# Altium schematic symbol library Main.SchLib: 30 symbols
Pins are listed as number, name and electrical type; pins without a type are passive.

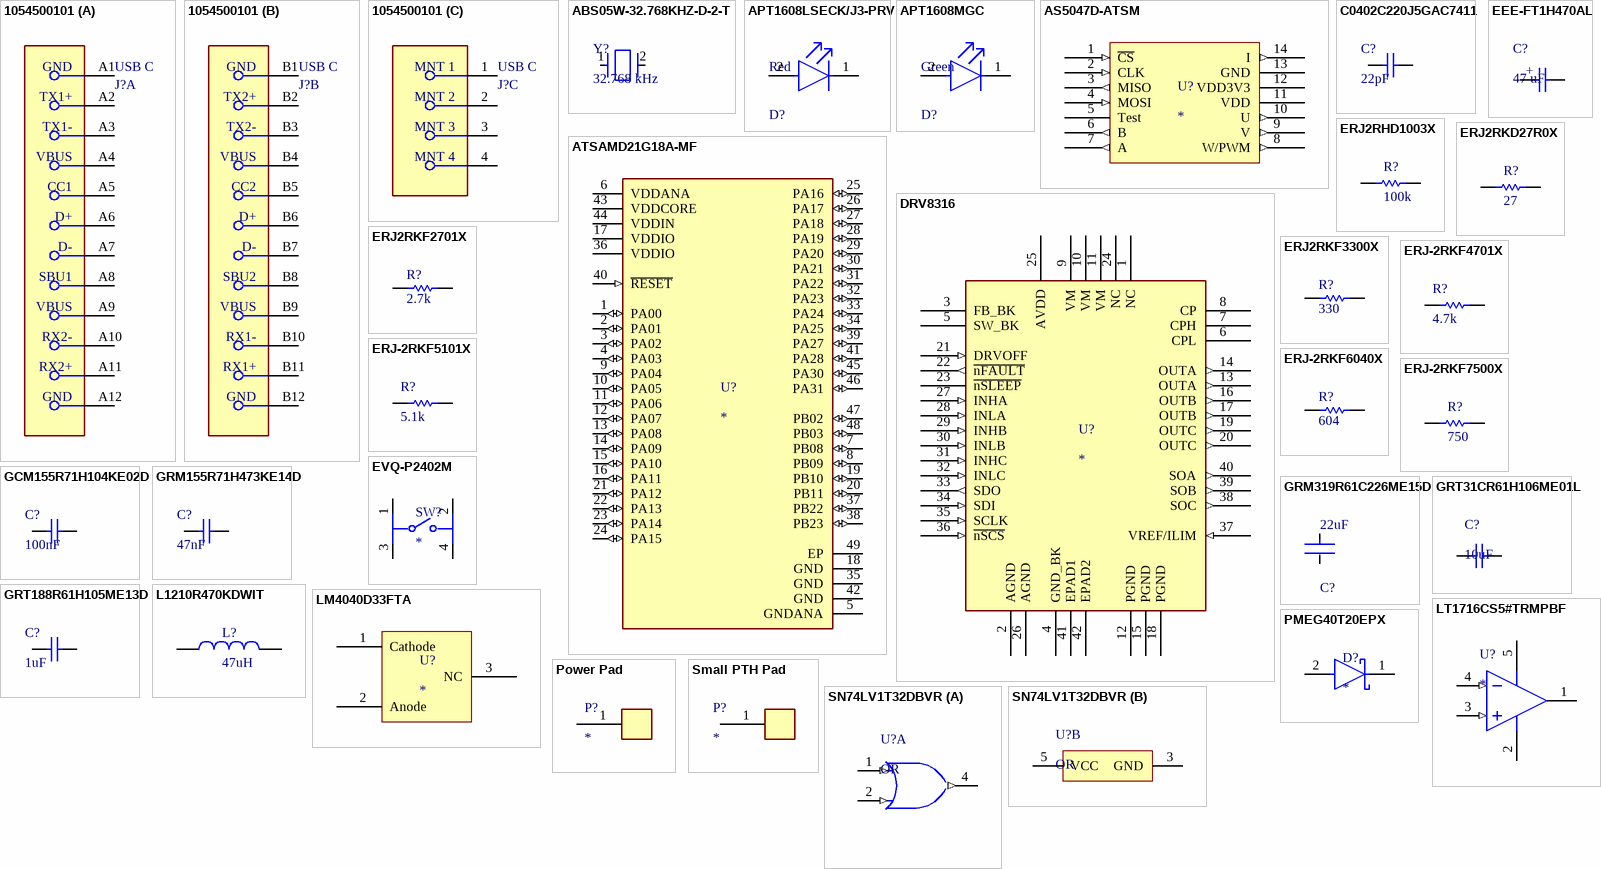
[diagram p0: symbols 1054500101 to SN74LV1T32DBVR]

## 1054500101
designator J?, comment USB C
CONN RCP USB3.1 TYPEC 24P SMD RA; Manufacturer: Molex; Manufacturer Part Number: 1054500101; Number Of Contacts: 24; Voltage Rating: 30V; Shielding: true; Is Female: yes; Current Rating: 0.25/1.25/5A; Pitch: 0.5mm; Conn Orientation: Right Angle; Package: 0; Height: 3.44mm; Footprint Url: https://www.molex.com/pdm_docs/sd/1054500101_sd.pdf; Device Class L1: Connectors; Category: Conn; Device Class L2: USB Connectors; Digikey Description: CONN RCP USB3.1 TYPEC 24P SMD RA; Contact Material: Gold,Nickel; Mouser Description: USB Shielded I/O Receptacle; Type C; Right Angle; Surface Mount; Gold over Nickel; ComponentLink2Description: Datasheet; Lead Free: Yes; Automotive: No; Temperature Range High: +85°C; RoHS: TRUE; Octopart: https://octopart.com/105450-0101-molex-68082325; ComponentLink2URL: https://www.molex.com/webdocs/datasheets/pdf/en-us/1054500101_IO_CONNECTORS.pdf; Temperature: -30°C to +85°C; Usb Standard: USB 3.1; Temperature Range Low: -30°C; Device Class L3: unset; Supplier 1: Digi-Key; Supplier Part Number 1: WM12856CT-ND
footprint FP-1054500101-MFG
part A pins: A1 GND, A2 TX1+, A3 TX1-, A4 VBUS, A5 CC1, A6 D+, A7 D-, A8 SBU1, A9 VBUS, A10 RX2-, A11 RX2+, A12 GND
part B pins: B1 GND, B2 TX2+, B3 TX2-, B4 VBUS, B5 CC2, B6 D+, B7 D-, B8 SBU2, B9 VBUS, B10 RX1-, B11 RX1+, B12 GND
part C pins: 1 MNT 1, 2 MNT 2, 3 MNT 3, 4 MNT 4

## ABS05W-32.768KHZ-D-2-T
designator Y?, comment 32.768 kHz
Crystal Oscillator; Supplier 1: Digi-Key; Supplier Part Number 1: 535-14310-1-ND
footprint ABS05W-32.768KHZ-D-2-T
pins: 1, 2

## APT1608LSECK/J3-PRV
designator D?, comment Red
LED RED CLEAR 2SMD; Dominant Wavelength: 625nm; Lens Color: Colorless; Forward Voltage: 1.8V; Luminous Intensity: 40mcd; Viewing Angle: 120°; Test Current: 2mA; Width: 0.8mm; Case Code (Metric): 1608; Color: Red; Lens Transparency: Clear; Mount: Surface Mount; Height: 0.75mm; Case/Package: 0603; Length: 1.6mm; Packaging: Tape and Reel; Case Code (Imperial): 0603; Supplier 1: Digi-Key; Supplier Part Number 1: 754-1930-1-ND
footprint FP-APT1608LSECK-J3-PRV-MFG
pins: 1 C, 2 A

## APT1608MGC
designator D?, comment Green
LED GREEN CLEAR CHIP SMD; Forward Voltage: 2.1V; Dominant Wavelength: 570nm; Viewing Angle: 120°; Forward Current: 20mA; Luminous Intensity: 70mcd; Max Operating Temperature: 85°C; Case Code (Imperial): 0603; Lens Style: Clear; Height: 0.75mm; Package Quantity: 2000; Width: 0.8mm; Case Code (Metric): 1608; Lead Free: Lead Free; Mount: Surface Mount; Length: 1.6mm; Illumination Color: Green; Min Operating Temperature: -40°C; Test Current: 20mA; Lens Color: Clear; Color: Green; Packaging: Tape and Reel; Case/Package: 0603; Supplier 1: Digi-Key; Supplier Part Number 1: 754-1118-1-ND
footprint FP-APT1608MGC-MFG
pins: 1 C, 2 A

## AS5047D-ATSM
designator U?
Supplier 1: Digi-Key; Supplier Part Number 1: AS5047D-ATSMCT-ND
footprint TSOP65P640X120-14N (TSOP, 14-Leads, Body 5.00x4.40mm, Pitch 0.65mm, IPC Medium Density)
pins: 1 ~{CS} (in), 2 CLK (in), 3 MISO (out), 4 MOSI (in), 5 Test, 6 B (out), 7 A (out), 8 W/PWM (out), 9 V (out), 10 U (out), 11 VDD (power), 12 VDD3V3 (power), 13 GND (power), 14 I (out)

## ATSAMD21G18A-MF
designator U?
footprint QFN-48 (ATSAMD21G18A-M Footprint)
pins: 1 PA00 (io), 2 PA01 (io), 3 PA02 (io), 4 PA03 (io), 5 GNDANA (power), 6 VDDANA (power), 7 PB08 (io), 8 PB09 (io), 9 PA04 (io), 10 PA05 (io), 11 PA06 (io), 12 PA07 (io), 13 PA08 (io), 14 PA09 (io), 15 PA10 (io), 16 PA11 (io), 17 VDDIO (power), 18 GND (power), 19 PB10 (io), 20 PB11 (io), 21 PA12 (io), 22 PA13 (io), 23 PA14 (io), 24 PA15 (io), 25 PA16 (io), 26 PA17 (io), 27 PA18 (io), 28 PA19 (io), 29 PA20 (io), 30 PA21 (io), 31 PA22 (io), 32 PA23 (io), 33 PA24 (io), 34 PA25 (io), 35 GND (power), 36 VDDIO (power), 37 PB22 (io), 38 PB23 (io), 39 PA27 (io), 40 ~{RESET} (in), 41 PA28 (io), 42 GND (power), 43 VDDCORE (power), 44 VDDIN (power), 45 PA30 (io), 46 PA31 (io), 47 PB02 (io), 48 PB03 (io), 49 EP (power)

## C0402C220J5GAC7411
designator C?, comment 22pF
Supplier 1: Digi-Key; Supplier Part Number 1: 399-C0402C220J5GAC7411CT-ND
footprint 0402CAP (0402 Capacitor)
pins: 1, 2

## DRV8316
designator U?
footprint QFN50P500X700X100_HS-41L (QFN, 40-Leads, Body 5.00x7.00mm, Pitch 0.50mm, Thermal Pad 3.70x5.70mm, IPC High Density)
pins: 1 NC, 2 AGND (power), 3 FB_BK (power), 4 GND_BK (power), 5 SW_BK, 6 CPL (power), 7 CPH (power), 8 CP (power), 9 VM (power), 10 VM (power), 11 VM (power), 12 PGND (power), 13 OUTA (out), 14 OUTA (out), 15 PGND (power), 16 OUTB (out), 17 OUTB (out), 18 PGND (power), 19 OUTC (out), 20 OUTC (out), 21 DRVOFF (in), 22 ~{nFAULT} (out), 23 ~{nSLEEP}, 24 NC, 25 AVDD (power), 26 AGND (power), 27 INHA (in), 28 INLA (in), 29 INHB (in), 30 INLB (in), 31 INHC (in), 32 INLC (in), 33 SDO (out), 34 SDI (in), 35 SCLK (in), 36 ~{nSCS} (in), 37 VREF/ILIM (in), 38 SOC (out), 39 SOB (out), 40 SOA (out), 41 EPAD1 (power), 42 EPAD2 (power)

## EEE-FT1H470AL
designator C?, comment 47 uF
Supplier 1: Digi-Key; Supplier Part Number 1: 10-EEE-FT1H470ALCT-ND
footprint CAPAE7866X61N (Aluminum Electrolytic Capacitor, Body 6.60x6.60x6.10mm, IPC Medium Density)
pins: 1, 2
text: +

## ERJ2RHD1003X
designator R?, comment 100k
Supplier 1: Newark; Supplier Part Number 1: 85Y7989
footprint RESC1005X40X25LL05T05 (Chip Resistor, 2-Leads, Body 1.05x0.55mm, IPC High Density)
pins: 1, 2

## ERJ2RKD27R0X
designator R?, comment 27
Supplier 1: RSComponents; Supplier Part Number 1: 8072299
footprint RESC1005X40X25LL05T05 (Chip Resistor, 2-Leads, Body 1.05x0.55mm, IPC High Density)
pins: 1, 2

## ERJ2RKF2701X
designator R?, comment 2.7k
Part Number: ERJ2RKF2701X; Manufacturer: Panasonic; Supplier 1: Digi-Key
footprint RESC1005X40X25LL05T05 (Chip Resistor, 2-Leads, Body 1.05x0.55mm, IPC High Density)
pins: 1, 2
1 alternate drawing of the same symbol

## ERJ2RKF3300X
designator R?, comment 330
Manufacturer: Panasonic; Part Number: ERJ2RKF3300X
footprint RESC1005X40X25LL05T05 (Chip Resistor, 2-Leads, Body 1.05x0.55mm, IPC High Density)
pins: 1, 2
1 alternate drawing of the same symbol

## ERJ-2RKF4701X
designator R?, comment 4.7k
Chip Resistor, 4.7 KOhm, +/- 1%, 0.1 W, -55 to 155 degC, 0402 (1005 Metric), RoHS, Tape and Reel; PartNumber: ERJ-2RKF4701X; Voltage Rating: 50 V; Case\/Package: 0402; Power Rating: 100 mW; Height: 0.35 mm; Mounting Technology: Surface Mount; REACH SVHC: Yes; Resistance: 4.7 KOhm; Max Operating Temperature: 155 degC; ComponentLink1Description: Manufacturer URL; ComponentLink2Description: Datasheet; Pins: 2; PackageReference: 0402; Tolerance: 1%; Case Code (Imperial): 0402; Length: 1 mm; PackageDescription: 2-Pin Surface Mount Device, Body 1 x 0.5 mm; RoHSCompliant: true; Package Quantity: 1; Radiation Hardening: No; DatasheetVersion: 04/2015; Width: 0.5 mm; Case Code (Metric): 1005; Mount: Surface Mount; ComponentLink1URL: http://www.panasonic.com/; Min Operating Temperature: -55 degC; Packaging: Cut Tape; ComponentLink2URL: http://industrial.panasonic.com/cdbs/www-data/pdf/RDA0000/AOA0000C86.pdf; Supplier 1: Digi-Key; Supplier Part Number 1: P4.70KLCT-ND
footprint RESC1005X40X25LL05T05 (Chip Resistor, 2-Leads, Body 1.05x0.55mm, IPC High Density)
pins: 1, 2

## ERJ-2RKF5101X
designator R?, comment 5.1k
PANASONIC - ERJ2RKF5101X - SMD Chip Resistor, 0402 [1005 Metric], 5.1 kohm, ERJ2R Series, 50 V, Thick Film, 100 mW; PartNumber: ERJ-2RKF4701X; Resistance: 4.7 KOhm; Tolerance: 1%; Voltage Rating: 50 V; Case\/Package: 0402; Power Rating: 100 mW; Height: 0.35 mm; Mounting Technology: Surface Mount; REACH SVHC: Yes; Max Operating Temperature: 155 degC; ComponentLink1Description: Manufacturer URL; ComponentLink2Description: Datasheet; Pins: 2; PackageReference: 0402; Case Code (Imperial): 0402; Length: 1 mm; PackageDescription: 2-Pin Surface Mount Device, Body 1 x 0.5 mm; RoHSCompliant: true; Package Quantity: 1; Radiation Hardening: No; DatasheetVersion: 04/2015; Width: 0.5 mm; Case Code (Metric): 1005; Mount: Surface Mount; ComponentLink1URL: http://www.panasonic.com/; Min Operating Temperature: -55 degC; Packaging: Cut Tape; ComponentLink2URL: http://industrial.panasonic.com/cdbs/www-data/pdf/RDA0000/AOA0000C86.pdf; Supplier 1: Digi-Key; Supplier Part Number 1: P5.10KLCT-ND
footprint RESC1005X40X25LL05T05 (Chip Resistor, 2-Leads, Body 1.05x0.55mm, IPC High Density)
pins: 1, 2

## ERJ-2RKF6040X
designator R?, comment 604
Part Number: ERJ-2RKF6040X; Manufacturer: Panasonic; Supplier 1: Digi-Key; Supplier Part Number 1: P604LCT-ND
footprint RESC1005X40X25LL05T05 (Chip Resistor, 2-Leads, Body 1.05x0.55mm, IPC High Density)
pins: 1, 2
1 alternate drawing of the same symbol

## ERJ-2RKF7500X
designator R?, comment 750
Supplier 1: Digi-Key; Supplier Part Number 1: P750LCT-ND
footprint RESC1005X40X25LL05T05 (Chip Resistor, 2-Leads, Body 1.05x0.55mm, IPC High Density)
pins: 1, 2

## EVQ-P2402M
designator SW?
Supplier 1: Digi-Key; Supplier Part Number 1: P11080SCT-ND
footprint EVQ-P2402M (Tactile Switch)
pins: 1, 2, 3, 4

## GCM155R71H104KE02D
designator C?, comment 100nF
Supplier 1: Digi-Key; Supplier Part Number 1: 490-10672-1-ND
footprint 0402CAP (0402 Capacitor)
pins: 1, 2

## GRM155R71H473KE14D
designator C?, comment 47nF
Chip Capacitor, 47 nF, +/- 10%, 50 V, -55 to 125 degC, 0402 (1005 Metric), RoHS, Tape and Reel; Manufacturer: TDK; PCN Part Number: MLCCPartNumberChange30/Nov/2012; Kits: 445-9021-KIT-ND-KITMLCC100PF-10UF04026.3-50V445-173086-KIT-ND-C0402-2220X7R6.3-50V1,000PF-; Temperature Coefficient: X7R; Voltage - Rated: 50V; Product Training Modules: CSeriesGeneralApplicationsSEAT,CCV,andTVCLDesignToolsGuidetoReplacinganElectrolyticCapacitorwithanMLCC; Other Names: 445-7336-1; Capacitance: 0.047µF; Online Catalog: CSeries,GeneralPurpose; Standard Package: 1; Manufacturer URL: http://www.tdk.com/; Category: Capacitors; Operating Temperature: -55°C~125°C; Datasheet Version: 08/2016; Tolerance: ±10%; Series: C; Mounting Technology: SurfaceMount; Mounting Type: SurfaceMount,MLCC; Packaging: CutTape(CT); Height - Seated (Max): -; Package Description: 2-Pin Surface Mount Device, Body 1 x 0.5 mm; Applications: GeneralPurpose; Thickness (Max): 0.022"(0.55mm); Datasheet URL: https://product.tdk.com/info/en/catalog/datasheets/mlcc_commercial_general_en.pdf; Ratings: -; Package Reference: 1005; Lead Spacing: -; Family: CeramicCapacitors; Lead Style: -; Size / Dimension: 0.039"Lx0.020"W(1.00mmx0.50mm); RoHS Information: RoHSCertificate-MLCC; Package / Case: 0402(1005Metric); Features: -; Supplier 1: Digi-Key; Supplier Part Number 1: 490-10702-1-ND
footprint FP-GRM155-0_05-MFG
pins: 1, 2

## GRM319R61C226ME15D
designator C?, comment 22uF
Multilayer Ceramic Capacitors 22uF ±10% 16V X7R SMD 1210; Voltage Rating (DC): 16V; RoHS Compliant: Yes; Thickness: 0.11inch; Packaging: Tape and Reel; Voltage: 16V; Length: 3.2mm; Radiation Hardening: No; Case/Package: 1210; Tolerance: 10%; Package Quantity: 1; Series: C; Capacitance: 22uF; Lead Free: Lead Free; Voltage Rating: 16V; Number of Pins: 2; Weight: 0.000564oz; Height: 2.5mm; Case Code (Metric): 3225; Depth: 2.5mm; Min Operating Temperature: -55°C; Termination: SMD/SMT; Dielectric Material: Ceramic; Mount: Surface Mount; Resistor Type: Ceramic; Max Operating Temperature: 125°C; Construction: Flat; Dielectric: X7R; Width: 0.098inch; REACH SVHC: No SVHC; Case Code (Imperial): 1210; Supplier 1: Digi-Key; Supplier Part Number 1: 490-12763-1-ND
footprint FP-GRM319-0_15-MFG
pins: 1, 2

## GRT31CR61H106ME01L
designator C?, comment 10uF
Supplier 1: Digi-Key; Supplier Part Number 1: 490-12457-1-ND
footprint FP-GRT31C-0_2-IPC_B
pins: 1, 2

## GRT188R61H105ME13D
designator C?, comment 1uF
Supplier 1: Digi-Key; Supplier Part Number 1: 490-12331-1-ND
footprint 0603CAP (0603 Capacitor)
pins: 1, 2

## L1210R470KDWIT
designator L?, comment 47uH
Supplier 1: Newark; Supplier Part Number 1: 50AC9370
footprint INDC3225X25N (Chip Inductor, 2-Leads, Body 3.20x2.50mm, IPC Medium Density)
pins: 1, 2

## LM4040D33FTA
designator U?
Supplier 1: Mouser; Supplier Part Number 1: 621-LM4040D33FTA
footprint SOT65P210X100-3N (SOT23, 3-Leads, Body 2.00x2.10mm, Pitch 0.65mm, IPC Medium Density)
pins: 1 Cathode, 2 Anode, 3 NC

## LT1716CS5#TRMPBF
designator U?
SOT-23, 44 V, Over-the-Top, Micropower, Precision Rail-to-Rail Comparator, 1 Channel, 2.7 to 44 V, 0 to +70 degC, 5-pin Plastic TSOT-23 (S5), Mini Tape and Reel; Generic Part Number: LT1716; Manufacturer: Linear Technology; PartNumber: LT1716CS5#TRMPBF; Vos (mV) Guaranteed: 1.6; Channels (#): 1; Prop Delay (us): 3; Supply Current (uA) Typical: 50; Vos (mV) Typical: 0.3; Vs Min (V): 2.7; Vs Max (V): 44; PackageDescription: 5-Pin Plastic TSOT-23, Body 2.9 x 1.63 mm, Pitch 0.95 mm; DatasheetVersion: Rev A; Supply Voltage Range: 2.7 to 44 V; RoHS: Y; ComponentLink3URL: http://cds.linear.com/docs/en/packaging/SOT_5_05-08-1635.pdf; ComponentLink2URL: http://cds.linear.com/docs/en/datasheet/1716fa.pdf; ComponentLink2Description: Datasheet; Code_JEDEC: MO-193; ComponentLink3Description: Package Specification; Mounting Technology: Surface Mount; ComponentLink1Description: Manufacturer URL; PackageReference: S5; Features: Comparator, Over-the-Top Inputs, Rail-to-Rail Out; ComponentLink1URL: http://www.linear.com/; Supplier 1: Digi-Key; Supplier Part Number 1: LT1716CS5#TRMPBFCT-ND
footprint SOT95P280X100-5N (SOT23, 5-Leads, Body 2.90x2.80mm, Pitch 0.95mm, IPC Medium Density)
pins: 1 OUT (oc), 2 V- (power), 3 +IN (in), 4 -IN (in), 5 V+ (power)

## PMEG40T20EPX
designator D?
Supplier 1: Digi-Key; Supplier Part Number 1: 1727-7480-1-ND
footprint SODFL470X110-2N (SODFL, 2-Leads, Body 2.50x4.70mm, IPC Medium Density)
pins: 1 C, 2 A

## Power Pad
designator P?
footprint Power Pad
pins: 1

## Small PTH Pad
designator P?
footprint Small PTH Pad
pins: 1

## SN74LV1T32DBVR
designator U?, comment OR
Single Power Supply 2-INPUT POSITIVE OR GATE with Logic Level Shifter, DBV0005A, LARGE T&R; Generic Part Number: SN74LV1T32; Manufacturer: Texas Instruments; Voltage(Nom)(V): 1.8,2.5,3.3,5.5; Output Drive (IOL/IOH)(Max)(mA): 8/-8; Input Type: TTL; Schmitt Trigger: No; Special Features: 1.8V to 3.3V Up Translation,3.3V to 1.8V Down Translation,5V Input Tolerant; 3-State Output: Yes; ICC @ Nom Voltage(Max)(mA): 0.01; F @ Nom Voltage(Max)(Mhz): 50; tpd @ Nom Voltage(Max)(ns): 13,7.5,5.5,7.0; Bits(#): 1; Output Type: CMOS; Rating: Catalog; Technology Family: LV1T; VCC(Min)(V): 1.6; Sub-Family: OR Gate; Logic: True; VCC(Max)(V): 5.5; Operating Temperature Range(C): -40 to 125; DatasheetVersion: SCLS741A; PackageReference: DBV0005A; Supplier 1: Digi-Key; Supplier Part Number 1: 296-37201-1-ND
footprint DBV0005A_M (SOT23, 5-Leads, Body 3.05x1.75mm, Pitch 0.95mm, IPC Low Density)
part A pins: 1 A (in) "Input A", 2 B (in) "Input B", 4 Y (out) "Output Y"
part B pins: 3 GND (power) "Ground Pin", 5 VCC (power) "Power Pin"